# Altium integrated library L78S12CV_VREG.IntLib: 1 symbol
Pins are listed as number, name and electrical type; pins without a type are passive.

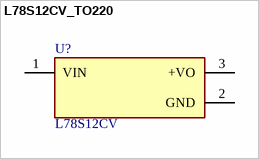
[diagram p0: symbol L78S12CV_TO220]

## L78S12CV_TO220
designator U?, comment L78S12CV
Linear Voltage Regulator IC Positive Fixed 1 Output 2A TO220; MP: L78S75CV; Value: *; Supplier 1: RSComponents; Supplier Part Number 1: 7147783
footprint L78S12CV
pins: 1 VIN, 2 GND (power), 3 +VO